# Altium footprint library RES1W.PcbLib: 1 footprints
Each footprint in its own frame and in the unit in brackets; x right, y up, seen from the top. Pads: shape width x height; smd on the part's side, far side on the other; paste and mask are expansions set on the pad; w line width, h text height; cw(c..) or ccw(c..) is an arc to the next point about the centre after c.
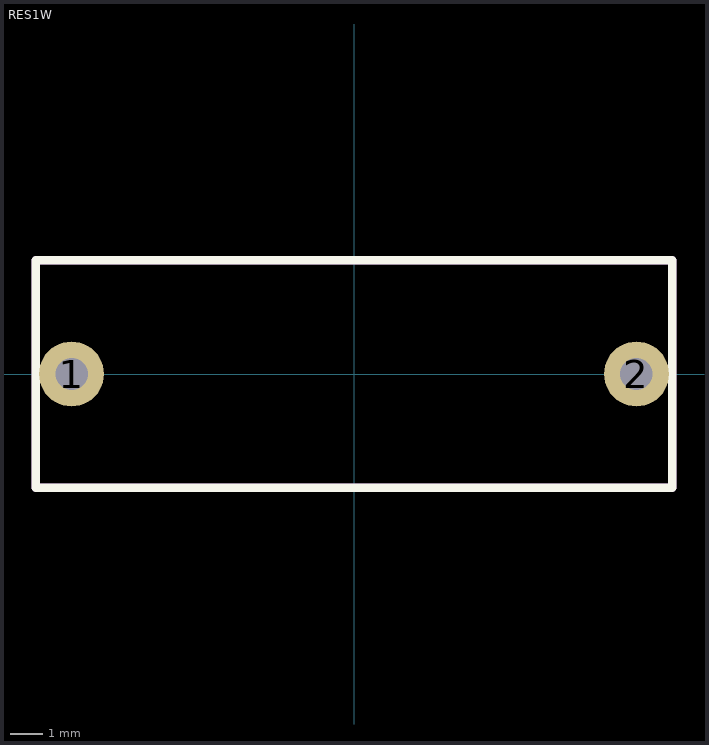
[diagram p0: the footprint, top view; thin cyan lines are the x and y axes]

## RES1W [mm]
pads (2):
  round 2 hole 1: 1(-8.7,0) 2(8.7,0)
Top Overlay:
  lines w0.254: -9.8,-3.5 9.8,-3.5 9.8,3.5 -9.8,3.5 -9.8,-3.5
Top Assembly:
  lines w0.254: -9.8,-3.5 9.8,-3.5 9.8,3.5 -9.8,3.5 -9.8,-3.5
  text "'.Designator'" at 0,0 h0.7
3D body "User Library-RES1_0L17_5.STEP": height 7.1, standoff -2.5, extent -9.1,-3.289 9.1,3.289